# Altium footprint library PcbLib1.PcbLib: 6 footprints
Each footprint in its own frame and in the unit in brackets; x right, y up, seen from the top. Pads: shape width x height; smd on the part's side, far side on the other; paste and mask are expansions set on the pad; w line width, h text height; cw(c..) or ccw(c..) is an arc to the next point about the centre after c.
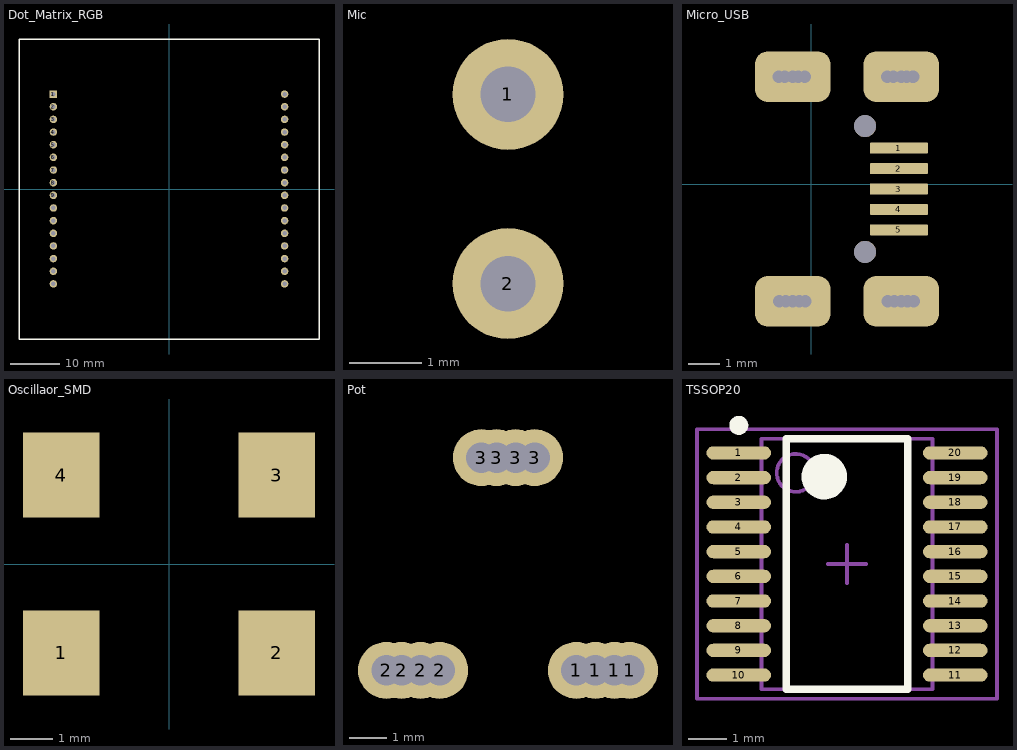
[diagram p0: the footprints below, top view; thin cyan lines are the x and y axes]

## Dot_Matrix_RGB [mm]
pads (32):
  rect 1.5x1.5 hole 0.9: 1(-23.2,19.05)
  round 1.5 hole 0.9: 2(-23.2,16.51) 3(-23.2,13.97) 4(-23.2,11.43) 5(-23.2,8.89) 6(-23.2,6.35) 7(-23.2,3.81) 8(-23.2,1.27) 9(-23.2,-1.27) 10(-23.2,-3.81) 11(-23.2,-6.35) 12(-23.2,-8.89) 13(-23.2,-11.43) 14(-23.2,-13.97) 15(-23.2,-16.51) 16(-23.2,-19.05) 17(23.2,-19.05) 18(23.2,-16.51) 19(23.2,-13.97) 20(23.2,-11.43) 21(23.2,-8.89) 22(23.2,-6.35) 23(23.2,-3.81) 24(23.2,-1.27) 25(23.2,1.27) 26(23.2,3.81) 27(23.2,6.35) 28(23.2,8.89) 29(23.2,11.43) 30(23.2,13.97) 31(23.2,16.51) 32(23.2,19.05)
Top Overlay:
  lines w0.254: -30.1,-30.1 30.1,-30.1 30.1,30.1 -30.1,30.1 -30.1,-30.1
3D body "User Library-Part1-76.STEP": height 7, standoff -4, extent -30.2,-30 29.8,30

## Mic [mil]
pads (2):
  round 60 hole 30: 1(-49488.19,-49716.54) 2(-49488.19,-49818.9)
3D body "User Library-Panasonic_Microphone_WM52BM.STEP": height 202.76, standoff -158.17, extent -49757.87,-49958.66 -49375.98,-49576.77

## Micro_USB [mm]
pads (27):
  rrect20% 1.85x0.35 smd: 1(2.79,1.145) 2(2.79,0.495) 3(2.79,-0.155) 4(2.79,-0.805) 5(2.79,-1.455)
  round 0 hole 0.4: ""(-1.035,3.42) ""(-1.01,-3.73) ""(-0.835,3.42) ""(-0.81,-3.73) ""(-0.41,3.42) ""(-0.385,-3.73) ""(-0.21,3.42) ""(-0.185,-3.73) ""(2.415,3.42) ""(2.44,-3.73) ""(2.615,3.42) ""(2.64,-3.73) ""(3.04,3.42) ""(3.065,-3.73) ""(3.24,3.42) ""(3.265,-3.73)
  rrect50% 2.4x1.6 hole 0.4 paste+0: ""(-0.585,-3.725)
  rrect50% 2.4x1.6 hole 0.4: ""(-0.585,3.415) ""(2.865,-3.725) ""(2.865,3.415)
  round 0.7 hole 0.7: ""(1.715,-2.155) ""(1.715,1.845)
3D body "User Library-MicroUSB-B_Molex_105017-0001.STEP": height 2.75, standoff -0.56, extent -2.98,-4.3 2.45,3.9

## Oscillaor_SMD [mm]
pads (4):
  rect 1.8x2 smd: 1(-2.54,-2.1) 2(2.54,-2.1) 3(2.54,2.1) 4(-2.54,2.1)
3D body "User Library-ECS-3951.STEP": height 1.7, standoff 0, extent -3.5,-2.501 3.5,2.501

## Pot [mm]
pads (12):
  round 1.5 hole 0.8: 1(-1262.4,-1270) 1(-1261.9,-1270) 1(-1261.4,-1270) 1(-1261,-1270) 2(-1267.4,-1270) 2(-1267,-1270) 2(-1266.5,-1270) 2(-1266,-1270) 3(-1264.9,-1264.4) 3(-1264.5,-1264.4) 3(-1264,-1264.4) 3(-1263.5,-1264.4)
3D body "User Library-Trimmer, 3306F-1.STEP": height 4.62, standoff -6.04, extent -1267.6,-1271.826 -1260.79,-1263.574

## TSSOP20 [mm]
pads (20):
  oval 1.7x0.35 smd: 1(-1265.95,-1263.448) 2(-1265.95,-1264.098) 3(-1265.95,-1264.748) 4(-1265.95,-1265.398) 5(-1265.95,-1266.048) 6(-1265.95,-1266.698) 7(-1265.95,-1267.348) 8(-1265.95,-1267.998) 9(-1265.95,-1268.648) 10(-1265.95,-1269.298) 11(-1260.25,-1269.298) 12(-1260.25,-1268.648) 13(-1260.25,-1267.998) 14(-1260.25,-1267.348) 15(-1260.25,-1266.698) 16(-1260.25,-1266.048) 17(-1260.25,-1265.398) 18(-1260.25,-1264.748) 19(-1260.25,-1264.098) 20(-1260.25,-1263.448)
Top Overlay:
  circle w0.25: c-1265.95,-1262.723 r0.125
  circle w0.6: c-1263.7,-1264.073 r0.3
  lines w0.2: -1264.7,-1269.673 -1264.7,-1263.073 -1261.5,-1263.073 -1261.5,-1269.673 -1264.7,-1269.673
Mechanical 13:
  circle w0.1: c-1264.45,-1263.973 r0.5
  lines w0.1: -1265.35,-1269.673 -1265.35,-1263.073 -1260.85,-1263.073 -1260.85,-1269.673 -1265.35,-1269.673
Mechanical 15:
  lines w0.1: -1263.6,-1266.373 -1262.6,-1266.373 ; -1263.1,-1266.873 -1263.1,-1265.873 ; -1267.05,-1269.923 -1267.05,-1262.823 -1259.15,-1262.823 -1259.15,-1269.923 -1267.05,-1269.923
3D body: height 1.1, standoff 0, extent -1265.35,-1269.673 -1260.85,-1263.073